# Altium integrated library GatorSynth_Step_Sequencer.IntLib: 26 symbols
Pins are listed as number, name and electrical type; pins without a type are passive.

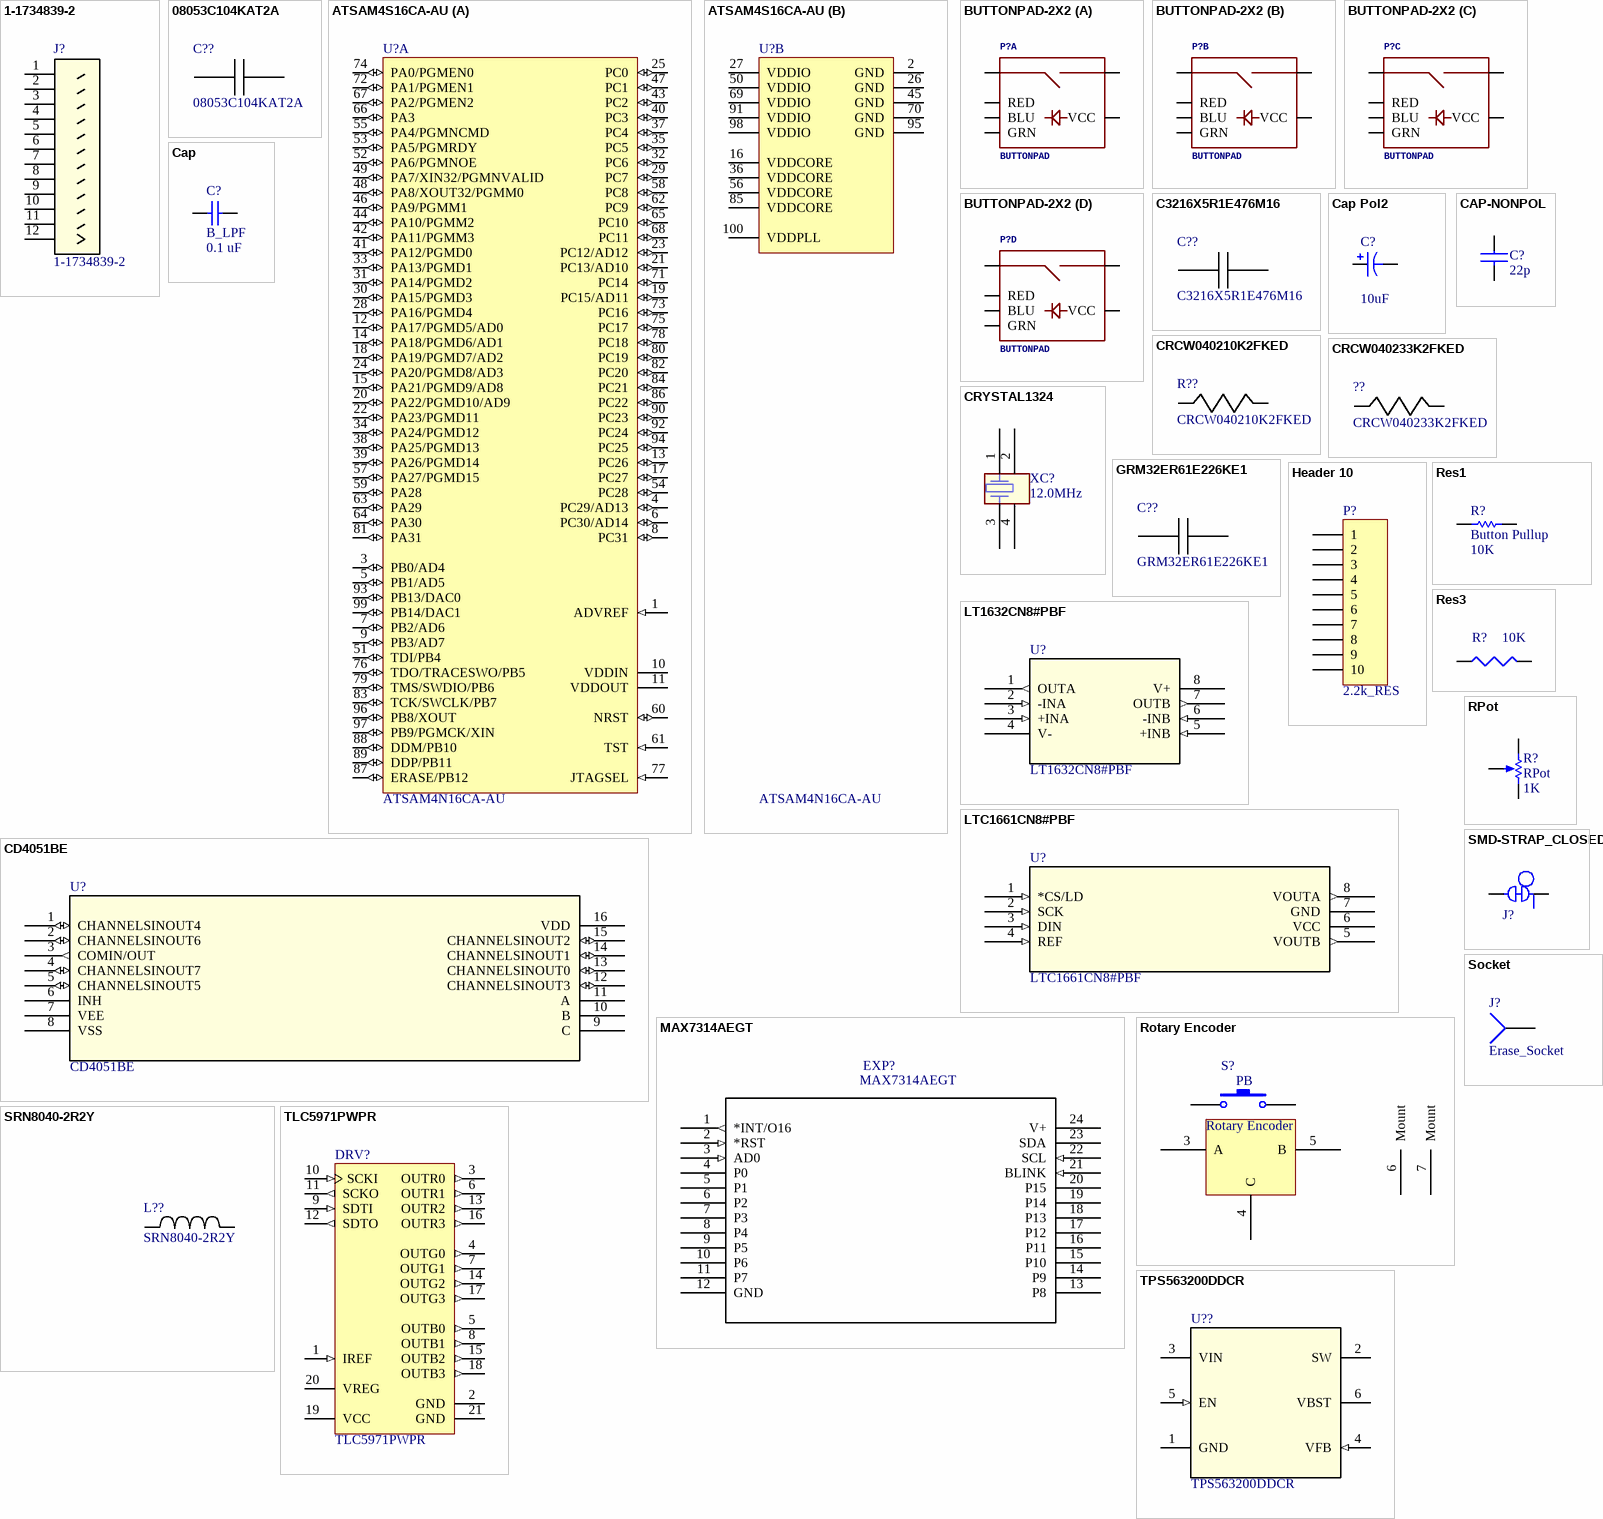
[diagram p0: symbols 1-1734839-2 to TPS563200DDCR]

## 1-1734839-2
designator J?
Imported; Manufacturer_Name: Tyco Electronics Amp; Vendor: Tyco Electronics; Supersection: Connectors; Section: General Purpose; C: Copyright (C) 2015 Accelerated Designs. All rights reserved; Manufacturer_Part_Number: 1-1734839-2; Family: Headers and PCB Receptacles; Copyright: Copyright (C) 2015 Accelerated Designs. All rights reserved; RS_Part_Number: 7188674; Value: Value; Type: Type; RefDes: RefDes
footprint CONN_1-1734592-2
pins: 1, 2, 3, 4, 5, 6, 7, 8, 9, 10, 11, 12

## 08053C104KAT2A
designator C??
Imported; Vendor: AVX; Manufacturer_Part_Number: 08053C104KAT2A; Manufacturer_Name: AVX; RefDes: RefDes; TYPE: TYPE; Value: Value
footprint 0805
pins: 1, 2

## ATSAM4S16CA-AU
designator U?, comment ATSAM4N16CA-AU  (net tie)
AT91 ARM Cortex-M4 32-bit Microcontroller, 1MB Flash, 128KB SRAM, USB, 79 User I/Os, 100-Pin LQFP, Industrial Grade (-40°C to 105°C), Pb-Free; DatasheetVersion: revA, Oct-2011; PackageVersion: Apr-2006; PackageReference: LQFP100; PackageDescription: 100-Pin Thin Quad Flat Pack 0.5 mm Pitch; Code_JEDEC: MS-026-BED; ComponentLink1Description: Manufacturer URL; ComponentLink1URL: http://www.atmel.com/; ComponentLink2Description: SAM4S Series Datasheet; ComponentLink2URL: http://www.atmel.com/dyn/resources/prod_documents/11100.pdf; ComponentLink3Description: SAM4S Series Summary; ComponentLink3URL: http://www.atmel.com/dyn/resources/prod_documents/11100S.pdf
footprint LQFP100_N (Thin QFP, 100-Leads, Body 14x14mm, Pitch 0.5mm, IPC Medium Density)
footprint LQFP100_L (Thin QFP, 100-Leads, Body 14x14mm, Pitch 0.5mm, IPC High Density)
footprint LQFP100_M (Thin QFP, 100-Leads, Body 14x14mm, Pitch 0.5mm, IPC Low Density)
part A pins: 1 ADVREF (in), 3 PB0/AD4 (io), 4 PC29/AD13 (io), 5 PB1/AD5 (io), 6 PC30/AD14 (io), 7 PB2/AD6 (io), 8 PC31 (io), 9 PB3/AD7 (io), 10 VDDIN (power), 11 VDDOUT (power), 12 PA17/PGMD5/AD0 (io), 13 PC26 (io), 14 PA18/PGMD6/AD1 (io), 15 PA21/PGMD9/AD8 (io), 17 PC27 (io), 18 PA19/PGMD7/AD2 (io), 19 PC15/AD11 (io), 20 PA22/PGMD10/AD9 (io), 21 PC13/AD10 (io), 22 PA23/PGMD11 (io), 23 PC12/AD12 (io), 24 PA20/PGMD8/AD3 (io), 25 PC0 (io), 28 PA16/PGMD4 (io), 29 PC7 (io), 30 PA15/PGMD3 (io), 31 PA14/PGMD2 (io), 32 PC6 (io), 33 PA13/PGMD1 (io), 34 PA24/PGMD12 (io), 35 PC5 (io), 37 PC4 (io), 38 PA25/PGMD13 (io), 39 PA26/PGMD14 (io), 40 PC3 (io), 41 PA12/PGMD0 (io), 42 PA11/PGMM3 (io), 43 PC2 (io), 44 PA10/PGMM2 (io), 46 PA9/PGMM1 (io), 47 PC1 (io), 48 PA8/XOUT32/PGMM0 (io), 49 PA7/XIN32/PGMNVALID (io), 51 TDI/PB4 (io), 52 PA6/PGMNOE (io), 53 PA5/PGMRDY (io), 54 PC28 (io), 55 PA4/PGMNCMD (io), 57 PA27/PGMD15 (io), 58 PC8 (io), 59 PA28 (io), 60 NRST (io), 61 TST (in), 62 PC9 (io), 63 PA29 (io), 64 PA30 (io), 65 PC10 (io), 66 PA3 (io), 67 PA2/PGMEN2 (io), 68 PC11 (io), 71 PC14 (io), 72 PA1/PGMEN1 (io), 73 PC16 (io), 74 PA0/PGMEN0 (io), 75 PC17 (io), 76 TDO/TRACESWO/PB5 (io), 77 JTAGSEL (in), 78 PC18 (io), 79 TMS/SWDIO/PB6 (io), 80 PC19 (io), 81 PA31 (io), 82 PC20 (io), 83 TCK/SWCLK/PB7 (io), 84 PC21 (io), 86 PC22 (io), 87 ERASE/PB12 (io), 88 DDM/PB10 (io), 89 DDP/PB11 (io), 90 PC23 (io), 92 PC24 (io), 93 PB13/DAC0 (io), 94 PC25 (io), 96 PB8/XOUT (io), 97 PB9/PGMCK/XIN (io), 99 PB14/DAC1 (io)
part B pins: 2 GND (power), 16 VDDCORE (power), 26 GND (power), 27 VDDIO (power), 36 VDDCORE (power), 45 GND (power), 50 VDDIO (power), 56 VDDCORE (power), 69 VDDIO (power), 70 GND (power), 85 VDDCORE (power), 91 VDDIO (power), 95 GND (power), 98 VDDIO (power), 100 VDDPLL (power)

## BUTTONPAD-2X2
designator P?, comment BUTTONPAD
5mm Button PadProven layout and schematic for 2x2 button pad. Panelize this device/fp to a 4x4 pad if needed. Spark Fun Electronics SKU : COM-07835. Compatible common cathode tri-color LED SKU : COM-00105
footprint BUTTONPAD-2X2 (Footprint not found)
footprint BUTTONPAD-2X2
part A pins: BLU1 BLU, GRN1 GRN, RED1 RED, SIG1, SIG2, VCC1 VCC
part B pins: BLU2 BLU, GRN2 GRN, RED2 RED, SIG3 SIG1, SIG4 SIG2, VCC2 VCC
part C pins: BLU3 BLU, GRN3 GRN, RED3 RED, SIG5 SIG1, SIG6 SIG2, VCC3 VCC
part D pins: BLU4 BLU, GRN4 GRN, RED4 RED, SIG7 SIG1, SIG8 SIG2, VCC4 VCC

## C3216X5R1E476M16
designator C??
Imported; Manufacturer_Part_Number: C3216X5R1E476M160AC; Manufacturer_Name: TDK; Cap_F: 0.000047; VDC_V: 25; RoHS: Y; MountType: SMT; RefDes: RefDes; TYPE: TYPE; Value: Value
footprint 1206
pins: 1, 2

## Cap
designator C?, comment B_LPF  value 0.1 uF
Capacitor; Published: 8-Jun-2000; LatestRevisionDate: 17-Jul-2002; LatestRevisionNote: Re-released for DXP Platform.; PackageReference: RAD-0.3; Publisher: Altium Limited; PackageDescription: Radial Cap, Thru-Hole; 2 Leads; 0.3 in Pin Spacing
footprint C0805 (Chip Capacitor, Body 2.0x1.3mm, IPC High Density)
simulation model CAP (Capacitor)
signal-integrity model Cap
pins: 1, 2

## Cap Pol2
designator C?  value 10uF
Polarized Capacitor (Axial); Published: 8-Jun-2000; LatestRevisionDate: 17-Jul-2002; LatestRevisionNote: Re-released for DXP Platform.; PackageReference: POLAR0.8; Publisher: Altium Limited; PackageDescription: Polarized Capacitor; 2 Leads
simulation model CAP (Capacitor)
signal-integrity model Cap Pol
footprint RAD-0.2 (Radial Cap, Thru-Hole; 2 Leads; 0.2 in Pin Spacing)
pins: 1, 2
1 alternate drawing of the same symbol

## CAP-NONPOL
designator C?  value 22p  (hidden comment: CAP-NONPOL)
Ceramic capacitor, SMD 0402, NP0, 50V, +/-5%; PartGroup: Capacitors,Ceramic,SMD 0402; AN: A01-0019; TemperatureRange: -55 - +125 deg C; Tolerance: 50V, +/-5%; Height: 0.550000011920929
footprint AP1-00001
pins: 1, 2

## CD4051BE
designator U?
Imported; Vendor: Texas Instruments; Section: Switches and Multiplexers; C: Copyright (C) 2015 Accelerated Designs. All rights reserved; Manufacturer_Part_Number: CD4051BE; Family: Analogue Switch Multiplexer; Manufacturer_Name: Texas Instruments; Copyright: Copyright (C) 2015 Accelerated Designs. All rights reserved; RS_Part_Number: 5036098; Value: Value; Type: Type; RefDes: RefDes
footprint N16
pins: 1 CHANNELSINOUT4 (io), 2 CHANNELSINOUT6 (io), 3 COMIN/OUT (out), 4 CHANNELSINOUT7 (io), 5 CHANNELSINOUT5 (io), 6 INH, 7 VEE (power), 8 VSS (power), 9 C, 10 B, 11 A, 12 CHANNELSINOUT3 (io), 13 CHANNELSINOUT0 (io), 14 CHANNELSINOUT1 (io), 15 CHANNELSINOUT2 (io), 16 VDD (power)

## CRCW040210K2FKED
designator R??
Imported; Vendor: Vishay-Dale; Manufacturer_Part_Number: CRCW040210K2FKED; Manufacturer_Name: Vishay-Dale; RefDes: RefDes; TYPE: TYPE; Value: Value
footprint 0402
pins: 1, 2

## CRCW040233K2FKED
designator ??
Imported; Vendor: Vishay-Dale; Manufacturer_Part_Number: CRCW040233K2FKED; Manufacturer_Name: Vishay-Dale; RefDes: RefDes; TYPE: TYPE; Value: Value
footprint 0402
pins: 1, 2

## CRYSTAL1324
designator XC?, comment 12.0MHz
Fox FQ5032B 12.0MHz SMD crystal 738B-12; PartGroup: Frequency devices,Crystals,SMD; Manufacturer: Fox  Electronics; MPN: FQ5032B-12-C-C-C-200-1; AN: A07-0042; Tolerance: 30PPM; Value: 12.0MHz; Height: 1,20000004768372
footprint AP7-00039
pins: 1, 2, 3, 4

## GRM32ER61E226KE1
designator C??
Imported; Manufacturer_Part_Number: GRM32ER61E226KE15L; Vendor: MuRata; Manufacturer_Name: MuRata; RefDes: RefDes; TYPE: TYPE; Value: Value
footprint 1210
pins: 1, 2

## Header 10
designator P?, comment 2.2k_RES
Header, 10-Pin; LatestRevisionDate: 17-Jul-2002; LatestRevisionNote: Re-released for DXP Platform.; Publisher: Altium Limited
footprint HDR1X10 (Connector; Header; 10 Position)
signal-integrity model Connector
pins: 1, 2, 3, 4, 5, 6, 7, 8, 9, 10

## LT1632CN8#PBF
designator U?
Imported; Operating_Temperature: 0Â°C ~ 70Â°C; Current_-_Output_/_Channel: 70mA; Voltage_-_Input_Offset: 500ÂµV; Current_-_Input_Bias: 1.15ÂµA; Output_Type: Rail-to-Rail; Vendor: Linear Technology; Amplifier_Type: General Purpose; Number_of_Circuits: 2; Slew_Rate: 45 V/Âµs; Gain_Bandwidth_Product: 45MHz; Current_-_Supply: 4.6mA; Current_-_Output/Channel: 40mA; Voltage_-_Supply,_Single/Dual_(Â±): 2.7 V ~ 36 V, Â±1.35 V ~ 18 V; Mounting_Type: Through Hole; 3D_Library_Name: Maxim2; C: Copyright (C) 2016 Accelerated Designs. All rights reserved; -3db_Bandwidth: -; Series: *; Manufacturer_Part_Number: LT1632CN8#PBF; DigiKeyPartNumber: LT1632CN8-ND; Quantity_Available: 0; DataSheet: http://www.linear.com/docs/3055; Packaging: Tube; Package_/_Case: 8-DIP (0.300", 7.62mm); Copyright: Copyright (C) 2015 Accelerated Designs. All rights reserved; Supplier_Device_Package: 8-PDIP; Value: Value; Type: Type; RefDes: RefDes
footprint PDIP-8_N
pins: 1 OUTA (out), 2 -INA (in), 3 +INA (in), 4 V- (power), 5 +INB (in), 6 -INB (in), 7 OUTB (out), 8 V+ (power)

## LTC1661CN8#PBF
designator U?
Imported; Vendor: Linear Technology; Manufacturer_Part_Number: LTC1661CN8#PBF; Value: Value; Type: Type; RefDes: RefDes
footprint PDIP-8_N
pins: 1 *CS/LD (in), 2 SCK (in), 3 DIN (in), 4 REF (in), 5 VOUTB (out), 6 VCC (power), 7 GND (power), 8 VOUTA (out)

## MAX7314AEGT
designator EXP?
Interface IC - I/O extensions Maxim Integrated MAX7314AEG%2B PWM I%C2%B2C 400 kHz QSOP 24; MP: MAX7314AEG+; Availability: Bad; Price: 2.82 USD; MF: Maxim Integrated; Package: QSOP-24 Maxim Integrated; Value: *
footprint 21-0055H_24
pins: 1 *INT/O16 (out), 2 *RST (in), 3 AD0 (in), 4 P0, 5 P1, 6 P2, 7 P3, 8 P4, 9 P5, 10 P6, 11 P7, 12 GND (power), 13 P8, 14 P9, 15 P10, 16 P11, 17 P12, 18 P13, 19 P14, 20 P15, 21 BLINK (in), 22 SCL (in), 23 SDA, 24 V+ (power)

## Res1
designator R?, comment Button Pullup  value 10K
Resistor; Published: 8-Jun-2000; LatestRevisionDate: 17-Jul-2002; LatestRevisionNote: Re-released for DXP Platform.; PackageReference: AXIAL-0.3; Publisher: Altium Limited; PackageDescription: Axial Device, Thru-Hole; 2 Leads; 0.3 in Pin Spacing
footprint 6-0805_N (Chip Resistor, Body 2.0x1.2mm, IPC Medium Density)
simulation model RESISTOR (Resistor)
signal-integrity model Res
pins: 1, 2

## Res3
designator R?  value 10K  (hidden comment: Res3)
Resistor; Published: 8-Jun-2000; LatestRevisionDate: 29-May-2009; LatestRevisionNote: IPC-7351 Footprint Added.; PackageReference: J1-0603; Publisher: Altium Limited; PackageDescription: Chip Resistor
footprint J1-0603 (Chip Resistor, Body 1.6x0.8mm, IPC High Density)
footprint 14-1210 (Chip Resistor, Body 3.2x2.5mm, IPC High Density)
footprint 12Z-2010 (Chip Resistor, Body 5.0x2.5mm, IPC High Density)
footprint RESC6332 (Chip Resistor, Body 6.3x3.2mm, IPC High Density)
simulation model RESISTOR (Resistor)
signal-integrity model Res
pins: 1, 2

## Rotary Encoder
designator S?  (value not drawn)
footprint Rotary Encoder SF
pins: 1, 2, 3 A, 4 C, 5 B, 6 Mount, 7 Mount
text: PB

## RPot
designator R?  value 1K
Potentiometer; Sim Note: Enter the Resistance value and the set point into parameter fields.; Set Position: 0.5; Published: 8-Jun-2000; LatestRevisionDate: 17-Jul-2002; LatestRevisionNote: Re-released for DXP Platform.; PackageReference: VR5; Publisher: Altium Limited; PackageDescription: Variable Resistor, Thru-Hole; 3 Leads
footprint VR5 (Thru-Hole; 3 Leads)
simulation model POT (Potentiometer)
pins: 1 TOP, 2 BOT, 3 TAP
1 alternate drawing of the same symbol

## SMD-STRAP_CLOSED
designator J?  (value not drawn)  (net tie, no BOM)
Default closed SMD strap, 0603 size; PartGroup: Mechanical devices,PCB implemented components; AN: A09-0783; Value: SMD-STRAP_0603_CLOSED; Height: 0
footprint AP9-00044
pins: 1, 2

## Socket
designator J?, comment Erase_Socket
Socket; LatestRevisionDate: 17-Jul-2002; LatestRevisionNote: Re-released for DXP Platform.; Publisher: Altium Limited
footprint PIN1 (Connector; Socket)
signal-integrity model Connector
pins: 1

## SRN8040-2R2Y
designator L??
Imported; Vendor: Bourns; Type: DEV; Datasheet_URL: http://www.bourns.com/data/global/pdfs/SRN8040.pdf; Manufacturer_Part_Number: SRN8040-2R2Y; Manufacturer_Name: Bourns; RefDes: RefDes; Value: Value
footprint SRN8040
pins: 1, 2

## TLC5971PWPR
designator DRV?
12-Channel, 16-Bit ES-PWM RGB LED Driver with 3.3 V Linear Regulator, 6 to 17 V, -40 to 85 degC, 20-pin SOP (PWP20), Green (RoHS & no Sb/Br); Manufacturer: Texas Instruments; Rating: Catalog; Vin(Max)(V): 17; Vin(Min)(V): 6; DatasheetVersion: SBVS146C; PackageVersion: 4073225-4/I; PackageReference: PWP20-2965X2290TP; PackageDescription: 20-Lead, Plastic Small Outline, Body Size 4.4 x 6.5 mm, Pitch 0.65 mm; Supplier 1: Digi-Key; Supplier Part Number 1: 296-27796-2-ND; Supplier 2: Digi-Key; Supplier Part Number 2: 296-27796-1-ND; Supplier 3: Digi-Key; Supplier Part Number 3: 296-27796-6-ND; Supplier 4: Newark; Supplier Part Number 4: 01T0730; Supplier 5: Mouser; Supplier Part Number 5: 595-TLC5971PWPR; Eco-Plan: Green (RoHS & no Sb/Br); SubFamily: LED Driver; Mounting Technology: Surface Mount; Code_JEDEC: MO-153; PartNumber: TLC5971PWPR; ComponentLink1Description: Manufacturer URL; ComponentLink1URL: http://www.ti.com/; ComponentLink2Description: Datasheet; ComponentLink2URL: http://www.ti.com/general/docs/lit/getliterature.tsp?genericPartNumber=TLC5971&fileType=pdf; ComponentLink3Description: Package Specification; ComponentLink3URL: http://www.ti.com/litv/pdf/mhts001g
footprint TI-PWP20-2965X2290TP_N (SOP, 20-Leads, Body 6.5x4.4mm, Pitch 0.65mm, Thermal Pad 2.965x2.29mm, IPC Medium Density)
footprint TI-PWP20-2965X2290TP_L (SOP, 20-Leads, Body 6.5x4.4mm, Pitch 0.65mm, Thermal Pad 2.965x2.29mm, IPC High Density)
footprint TI-PWP20-2965X2290TP_M (SOP, 20-Leads, Body 6.5x4.4mm, Pitch 0.65mm, Thermal Pad 2.965x2.29mm, IPC Low Density)
pins: 1 IREF (in) "Maximum current programming terminal. A resistor connected between IREF and GND sets the maximum current for every constant- current output. When this terminal is directly connected to GND, all outputs are forced off. The (See Datasheet)", 2 GND (power) "Power ground terminal", 3 OUTR0 (out) "RED constant-current outputs. Multiple outputs can be configured in parallel to increase the constant-current capability. Different voltages can be applied to each output.", 4 OUTG0 (out) "GREEN constant-current outputs. Multiple outputs can be configured in parallel to increase the constant-current capability. Different voltages can be applied to each output.", 5 OUTB0 (out) "BLUE constant-current outputs. Multiple outputs can be configured in parallel to increase the constant-current capability. Different voltages can be applied to each output.", 6 OUTR1 (out) "RED constant-current outputs. Multiple outputs can be configured in parallel to increase the constant-current capability. Different voltages can be applied to each output.", 7 OUTG1 (out) "GREEN constant-current outputs. Multiple outputs can be configured in parallel to increase the constant-current capability. Different voltages can be applied to each output.", 8 OUTB1 (out) "BLUE constant-current outputs. Multiple outputs can be configured in parallel to increase the constant-current capability. Different voltages can be applied to each output.", 9 SDTI (in) "Serial data input for the 224-bit shift register", 10 SCKI (in) "Serial data shift clock input. Data present on SDTI are shifted to the LSB of the 224-bit shift register with the SCKI rising edge Data in the shift register are shifted toward the MSB at each SCKI rising edge. The MSB data (See Datasheet)", 11 SCKO (out) "Serial data shift clock output. The input shift clock signal from SCKI is adjusted to the timing of the serial data output for SDTO and the signal is then output at SCKO.", 12 SDTO (out) "Serial data output of the 224-bit shift register. SDTO is connected to the MSB of the 224-bit shift register. Data are clocked out at the SCKI rising edge.", 13 OUTR2 (out) "RED constant-current outputs. Multiple outputs can be configured in parallel to increase the constant-current capability. Different voltages can be applied to each output.", 14 OUTG2 (out) "GREEN constant-current outputs. Multiple outputs can be configured in parallel to increase the constant-current capability. Different voltages can be applied to each output.", 15 OUTB2 (out) "BLUE constant-current outputs. Multiple outputs can be configured in parallel to increase the constant-current capability. Different voltages can be applied to each output.", 16 OUTR3 (out) "RED constant-current outputs. Multiple outputs can be configured in parallel to increase the constant-current capability. Different voltages can be applied to each output.", 17 OUTG3 (out) "GREEN constant-current outputs. Multiple outputs can be configured in parallel to increase the constant-current capability. Different voltages can be applied to each output.", 18 OUTB3 (out) "BLUE constant-current outputs. Multiple outputs can be configured in parallel to increase the constant-current capability. Different voltages can be applied to each output.", 19 VCC (power) "Power-supply terminal", 20 VREG (power) "Internal linear voltage regulator output. A decoupling capacitor of 1 uF must be connected. This output can be used for external devices as a 3.3-V power supply. This terminal can be connected with the VREG terminal of other (See Datasheet)", 21 GND (power) "Power ground terminal"

## TPS563200DDCR
designator U??
Imported; Alternate_Manufacturer: None; Manufacturer: Texas Instruments; CurrentTime: Not shown in title block; DocumentNumber: 1; SymbolCreator: a0411947; CompType: IC; U/M: EA; Designator: U?; PIN_COUNT: 6; CurrentDate: Not shown in title block; Time: Not shown in title block; Date: Not shown in title block; DocumentFullPathAndName: Not shown in title block; DocumentName: Not shown in title block; ModifiedDate: Not shown in title block; ApprovedBy: Not shown in title block; CheckedBy: Not shown in title block; Author: Not shown in title block; CompanyName: Not shown in title block; Engineer: Not shown in title block; Organization: Not shown in title block; Address1: Not shown in title block; Address2: Not shown in title block; Address3: Not shown in title block; Address4: Not shown in title block; Revision: Use project parameter SCH_Rev; SheetNumber: 1; SheetTotal: 1; ImagePath: Not shown in title block; Rule: *; ProjectName: *; SymbolVersion: 2014-04-11; PartNumber: TPS563200DDC; PackageReference: DDC0006A; MountType: SMT; ComponentLink1Description: Datasheet Link; ComponentLink1URL: https://sps06.itg.ti.com/sites/KMS/crossdivteams/altium/docs/ComponentDatasheets/TPS56320xDDC_User's_Guide_v0p1_14_0203.pdf; RoHS: Y; Publisher: Texas Instruments; LatestRevisionDate: 2014-04-14; Manufacturer_Part_Number: TPS563200DDCR; Manufacturer_Name: Texas Instruments; RefDes: RefDes; Type: DEV; Value: Value
footprint DDC0006A
pins: 1 GND (power), 2 SW (power), 3 VIN (power), 4 VFB (in), 5 EN (in), 6 VBST (power)